# EAGLE library part DS2450 (library 1wire)
Quad A/D Converter This chip offers 4 A/D converter channels with up to 16bit precision and a range from 0..2.56 or 0..5.12V. The A/D conversion is initiated by software and automatically checked against programmable top and bottom thresholds. Note: The A/D input pins feature an open drain output with 4mA sinking capability, too. Author: Jan Kandziora <jjj@gmx.de>
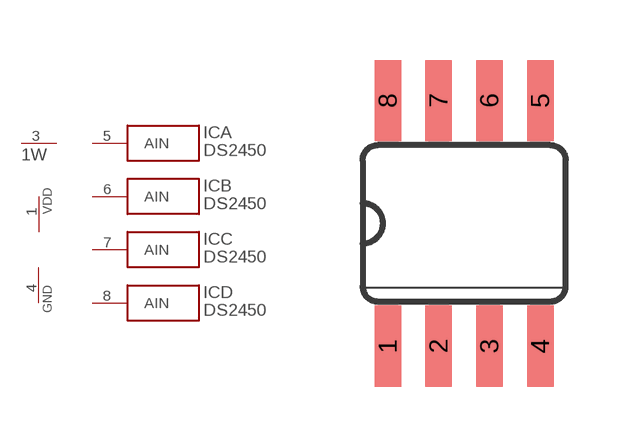
[diagram p2: symbol with the pads of SO08; footprint SO08]

Designator prefix IC; gates A=AIN B=AIN C=AIN D=AIN _1W=1W P=VDD-GND

## DS2450S  [SO08]
1  P:VDD  pwr
3  _1W:1W  pwr
4  P:GND  pwr
5  A:AIN  oc
6  B:AIN  oc
7  C:AIN  oc
8  D:AIN  oc

## Footprint SO08 (pad centres in mm)
Small Outline Package
smd 0.66 x 2.032: 1 -1.905,-3.073; 2 -0.635,-3.073; 3 0.635,-3.073; 4 1.905,-3.073; 5 1.905,3.073; 6 0.635,3.073; 7 -0.635,3.073; 8 -1.905,3.073